# Altium schematic symbol library Bourns-3269-Series.SchLib: 1 symbol
Pins are listed as number, name and electrical type; pins without a type are passive.

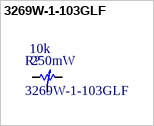
[diagram p0: symbol 3269W-1-103GLF]

## 3269W-1-103GLF
designator R?  value 10k  Value2: 250mW
10 kOhms 0.25W, 1/4W Gull Wing Surface Mount Trimmer Potentiometer Cermet 12.0 Turn Top Adjustment; Type: 3269W-1-103GLF
footprint BOURNS_3269W_C (3269 - 1/4 ? Square SMD Trimpot® Trimming Potentiometer)
pins: 1, 2, 3